# Altium integrated library 90121-0764.IntLib: 1 symbol
Pins are listed as number, name and electrical type; pins without a type are passive.

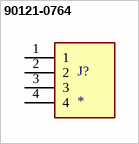
[diagram p0: symbol 90121-0764]

## 90121-0764
designator J?
Connector Header Through Hole, Right Angle 4 position 0.100" (2.54mm); MP: 90121-0764; Package: None; Price: None; Value: *; Availability: Unavailable
footprint MOLEX_90121-0764
pins: 1, 2, 3, 4